# Altium schematic symbol library ECEA1AKA101I.SchLib: 1 symbol
Pins are listed as number, name and electrical type; pins without a type are passive.

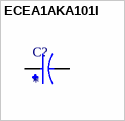
[diagram p0: symbol ECEA1AKA101I]

## ECEA1AKA101I
designator C?
Aluminum Electrolytic Capacitors - Radial Leaded 100uF 10V; MF: Panasonic; MP: ECEA1AKA101I; Check_prices: https://www.snapeda.com/parts/ECEA1AKA101I/Panasonic/view-part/5791384/?ref=eda; Price: None; Availability: In Stock; Value: *; SnapEDA_Link: https://www.snapeda.com/parts/ECEA1AKA101I/Panasonic/view-part/5791384/?ref=snap; Package: RADIAL-2 Panasonic
footprint CAPPRD250W45D630H700
pins: N, P